# Altium footprint library 532540370.PcbLib: 1 footprints
Each footprint in its own frame and in the unit in brackets; x right, y up, seen from the top. Pads: shape width x height; smd on the part's side, far side on the other; paste and mask are expansions set on the pad; w line width, h text height; cw(c..) or ccw(c..) is an arc to the next point about the centre after c.
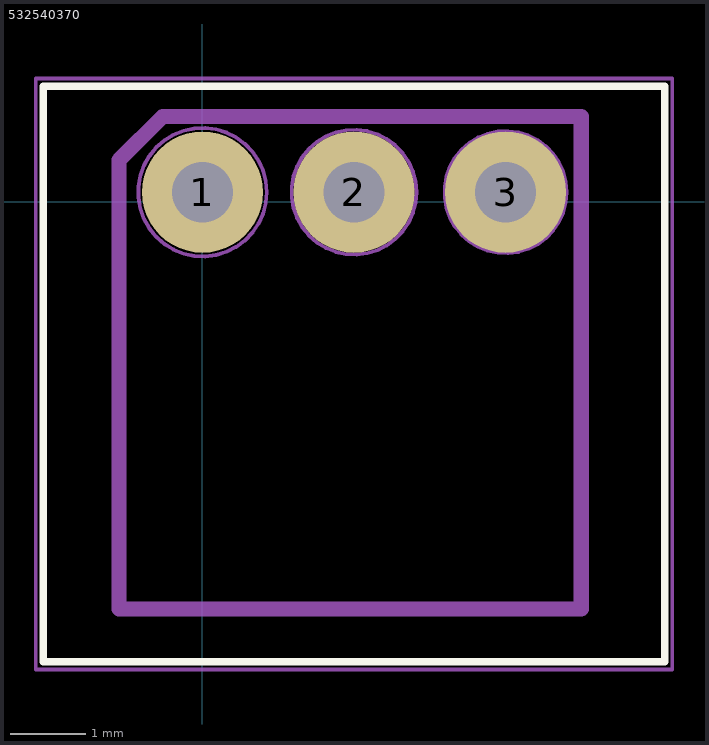
[diagram p0: the footprint, top view; thin cyan lines are the x and y axes]

## 532540370 [mm]
pads (3):
  round 1.6 hole 0.8 mask+0: 1(0,0.127) 2(2,0.127) 3(4,0.127)
Top Overlay:
  lines w0.1: -2.1,-6.073 0.125,-6.073 3.975,-6.073 6.1,-6.073 6.1,1.527 -2.1,1.527 -2.1,-3.773 -2.1,-6.073
Mechanical 3:
  lines w0.2: -1.1,-5.373 -1.1,0.551 -0.524,1.127 5,1.127 5,-5.373 -0.1,-5.373 -1.1,-5.373
Mechanical 5:
  circle w0.05: c4,0.127 r0.806
  circle w0.05: c2,0.127 r0.825
  circle w0.05: c0,0.127 r0.849
Mechanical 7:
  lines w0.05: -2.2,-6.173 6.2,-6.173 6.2,1.627 -2.2,1.627 -2.2,-5.773 -2.2,-6.173
Mechanical 9:
  text "'.Designator'" at -3.4,-2.373 h1
3D body "532540370.stp": height 4.3, standoff -3.4, extent -2,-5.923 6,1.377
3D body: height 1, standoff 0, extent -2.2,-6.173 6.2,1.627